# Altium schematic symbol library 主控板.SCHLIB: 30 symbols
Pins are listed as number, name and electrical type; pins without a type are passive.

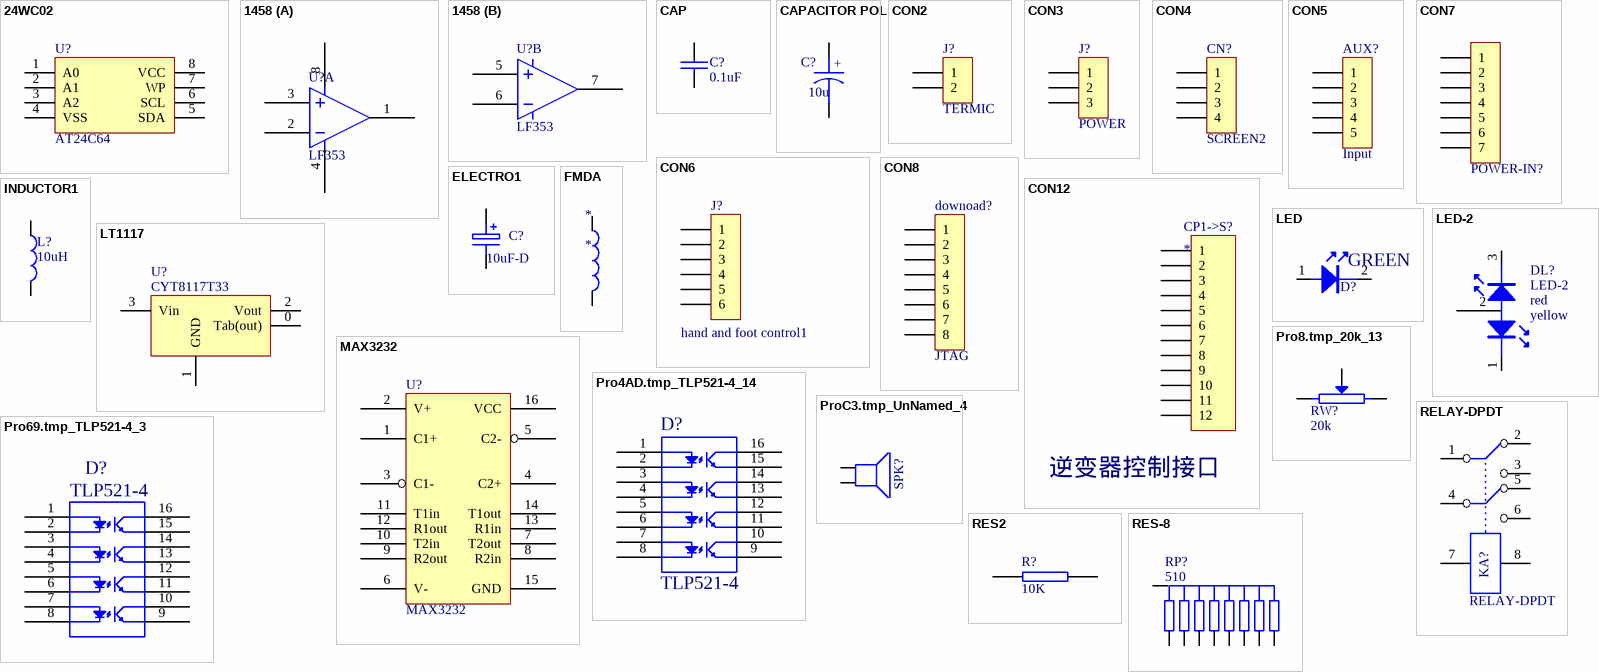
[diagram p0: symbols 24WC02 to RES-8]

## 24WC02
designator U?, comment AT24C64
footprint SO-8
pins: 1 A0, 2 A1, 3 A2, 4 VSS, 5 SDA, 6 SCL, 7 WP, 8 VCC
2 alternate drawings of the same symbol

## 1458
designator U?, comment LF353
footprint DIP-8
footprint DIP8
part A pins: 1, 2, 3, 4, 8
part B pins: 5, 6, 7
2 alternate drawings of the same symbol

## CAP
designator C?, comment 0.1uF
Capacitor
footprint RAD0.1
footprint RAD0.2
pins: 1, 2
2 alternate drawings of the same symbol

## CAPACITOR POL
designator C?, comment 10u
Capacitor
footprint RB.1/.2
pins: 1, 2
2 alternate drawings of the same symbol
text: +

## CON2
designator J?, comment TERMIC
Connector
footprint SIP2B
pins: 1, 2
2 alternate drawings of the same symbol

## CON3
designator J?, comment POWER
Connector
footprint SIP3B
pins: 1, 2, 3
2 alternate drawings of the same symbol

## CON4
designator CN?, comment SCREEN2
Connector
footprint SIP4B
pins: 1, 2, 3, 4
2 alternate drawings of the same symbol

## CON5
designator AUX?, comment Input
Connector
footprint SIP5B
pins: 1, 2, 3, 4, 5
2 alternate drawings of the same symbol

## CON6
designator J?, comment hand and foot control1
Connector
footprint SIP6B
pins: 1, 2, 3, 4, 5, 6
2 alternate drawings of the same symbol

## CON7
designator POWER-IN?  (value not drawn)
Connector
footprint SIP7B
pins: 1, 2, 3, 4, 5, 6, 7
2 alternate drawings of the same symbol

## CON8
designator downoad?, comment JTAG
Connector
footprint HDR1X8
footprint HDR1X8P
footprint HDR1X8HA
pins: 1, 2, 3, 4, 5, 6, 7, 8
2 alternate drawings of the same symbol

## CON12
designator CP1->S?
Connector
footprint SIP12B
pins: 1, 2, 3, 4, 5, 6, 7, 8, 9, 10, 11, 12
2 alternate drawings of the same symbol
text: 逆变器控制接口

## ELECTRO1
designator C?, comment 10uF-D
Electrolytic Capacitor
footprint RB.1/.2
pins: 1, 2
2 alternate drawings of the same symbol

## FMDA
designator *
pins: 1, 2

## INDUCTOR1
designator L?, comment 10uH
footprint 0805
pins: 1, 2
2 alternate drawings of the same symbol

## LED
designator D?, comment GREEN
value: *
footprint 0805
footprint LED3_1
pins: 1, 2
2 alternate drawings of the same symbol

## LED-2
designator DL?
footprint LED3_2
pins: 1, 2, 3
2 alternate drawings of the same symbol
text: red; yellow

## LT1117
designator U?, comment CYT8117T33
footprint SOT-223_1
pins: 0 Tab(out), 1 GND, 2 Vout, 3 Vin
2 alternate drawings of the same symbol

## MAX3232
designator U?
footprint DIP16
pins: 1 C1+, 2 V+, 3 C1-, 4 C2+, 5 C2-, 6 V-, 7 T2out, 8 R2in, 9 R2out, 10 T2in, 11 T1in, 12 R1out, 13 R1in, 14 T1out, 15 GND, 16 VCC
2 alternate drawings of the same symbol

## Pro4AD.tmp_TLP521-4_14
designator D?, comment TLP521-4
footprint DIP16
pins: 1, 2, 3, 4, 5, 6, 7, 8, 9, 10, 11, 12, 13, 14, 15, 16
2 alternate drawings of the same symbol

## Pro8.tmp_20k_13
designator RW?, comment 20k
footprint VR5
pins: 1, 2, 3
2 alternate drawings of the same symbol

## Pro69.tmp_TLP521-4_3
designator D?, comment TLP521-4
footprint DIP16
pins: 1, 2, 3, 4, 5, 6, 7, 8, 9, 10, 11, 12, 13, 14, 15, 16
2 alternate drawings of the same symbol

## ProC3.tmp_UnNamed_4
designator SPK?
footprint SPK
footprint BELL-2
pins: 1, 2
2 alternate drawings of the same symbol

## RELAY-DPDT
designator KA?
JK
footprint RELAY8
footprint RL-8N
footprint RL-8D
footprint RELAY-8
pins: 1, 2, 3, 4, 5, 6, 7, 8
2 alternate drawings of the same symbol

## RES2
designator R?, comment 10K
footprint AXIAL0.4
pins: 1, 2
2 alternate drawings of the same symbol

## RES-8
designator RP?, comment 510
footprint SIP9
pins: 1, 2, 3, 4, 5, 6, 7, 8, 9
2 alternate drawings of the same symbol

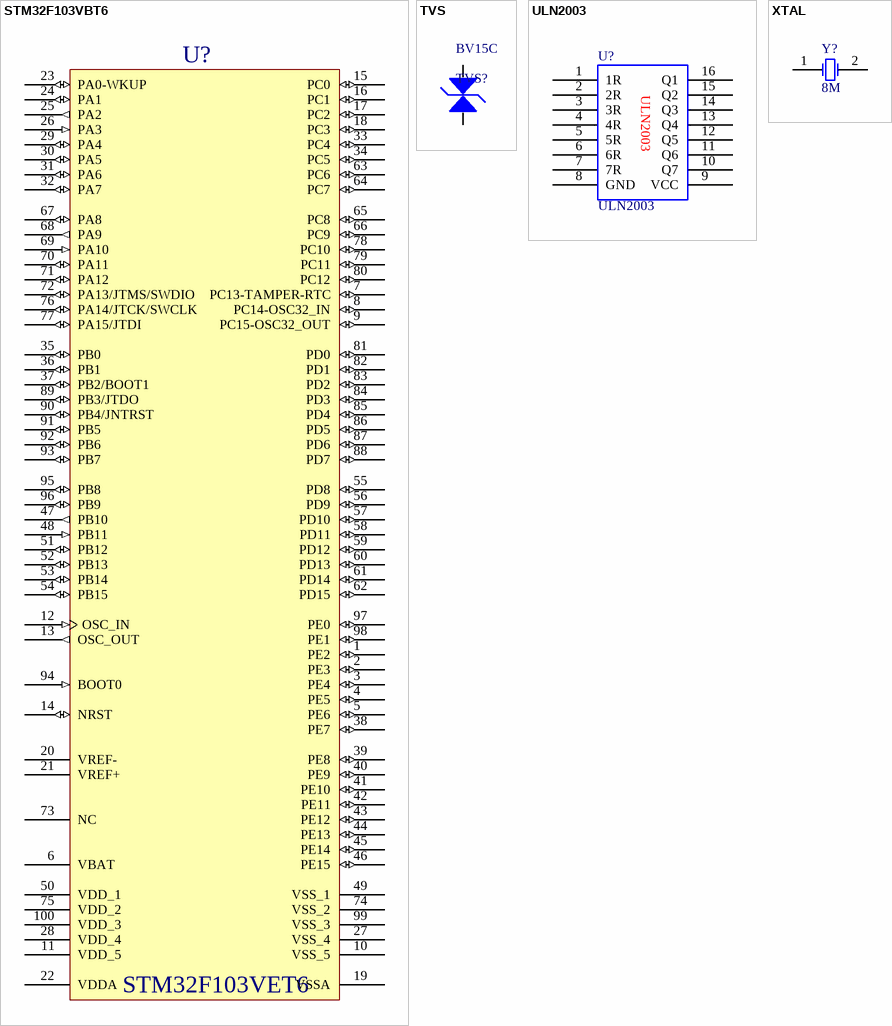
[diagram p1: symbols STM32F103VBT6 to XTAL]

## STM32F103VBT6
designator U?, comment STM32F103VET6
STM32 ARM-based 32-bit MCU with 64 Kbytes Flash, 100-pin LQFP, Industrial Temperature; Published: *; DatasheetVersion: *; PackageVersion: *; PackageReference: *; Publisher: *; PackageDescription: *; ComponentLink1Description: *; ComponentLink1URL: *; ComponentLink2Description: *; ComponentLink2URL: *
footprint LQFP100_N
footprint LQFP100_L
footprint LQFP100_M
pins: 1 PE2 (io), 2 PE3 (io), 3 PE4 (io), 4 PE5 (io), 5 PE6 (io), 6 VBAT (power), 7 PC13-TAMPER-RTC (io), 8 PC14-OSC32_IN (io), 9 PC15-OSC32_OUT (io), 10 VSS_5 (power), 11 VDD_5 (power), 12 OSC_IN (in), 13 OSC_OUT (out), 14 NRST (io), 15 PC0 (io), 16 PC1 (io), 17 PC2 (io), 18 PC3 (io), 19 VSSA (power), 20 VREF- (power), 21 VREF+ (power), 22 VDDA (power), 23 PA0-WKUP (io), 24 PA1 (io), 25 PA2 (out), 26 PA3 (in), 27 VSS_4 (power), 28 VDD_4 (power), 29 PA4 (io), 30 PA5 (io), 31 PA6 (io), 32 PA7 (io), 33 PC4 (io), 34 PC5 (io), 35 PB0 (io), 36 PB1 (io), 37 PB2/BOOT1 (io), 38 PE7 (io), 39 PE8 (io), 40 PE9 (io), 41 PE10 (io), 42 PE11 (io), 43 PE12 (io), 44 PE13 (io), 45 PE14 (io), 46 PE15 (io), 47 PB10 (out), 48 PB11 (in), 49 VSS_1 (power), 50 VDD_1 (power), 51 PB12 (io), 52 PB13 (io), 53 PB14 (io), 54 PB15 (io), 55 PD8 (io), 56 PD9 (io), 57 PD10 (io), 58 PD11 (io), 59 PD12 (io), 60 PD13 (io), 61 PD14 (io), 62 PD15 (io), 63 PC6 (io), 64 PC7 (io), 65 PC8 (io), 66 PC9 (io), 67 PA8 (io), 68 PA9 (out), 69 PA10 (in), 70 PA11 (io), 71 PA12 (io), 72 PA13/JTMS/SWDIO (io), 73 NC, 74 VSS_2 (power), 75 VDD_2 (power), 76 PA14/JTCK/SWCLK (io), 77 PA15/JTDI (io), 78 PC10 (io), 79 PC11 (io), 80 PC12 (io), 81 PD0 (io), 82 PD1 (io), 83 PD2 (io), 84 PD3 (io), 85 PD4 (io), 86 PD5 (io), 87 PD6 (io), 88 PD7 (io), 89 PB3/JTDO (io), 90 PB4/JNTRST (io), 91 PB5 (io), 92 PB6 (io), 93 PB7 (io), 94 BOOT0 (in), 95 PB8 (io), 96 PB9 (io), 97 PE0 (io), 98 PE1 (io), 99 VSS_3 (power), 100 VDD_3 (power)
2 alternate drawings of the same symbol

## TVS
designator BV15C, comment TVS?
pins: 1, 2

## ULN2003
designator U?
U?
footprint SO-16
footprint SOP-16
footprint DIP16
pins: 1 1R, 2 2R, 3 3R, 4 4R, 5 5R, 6 6R, 7 7R, 8 GND, 9 VCC, 10 Q7, 11 Q6, 12 Q5, 13 Q4, 14 Q3, 15 Q2, 16 Q1
2 alternate drawings of the same symbol

## XTAL
designator Y?, comment 8M
Crystal Oscillator; Published: 8-Jun-2000; LatestRevisionDate: 17-Jul-2002; LatestRevisionNote: Re-released for DXP Platform.; PackageReference: R38; Publisher: Altium Limited
footprint XTAL-2
pins: 1 OSC1, 2 OSC2
2 alternate drawings of the same symbol